# EAGLE library part ATMEGA32U4 (library we-chip)
Microchip ATmega16U4/32U4 AVR Microcontroller
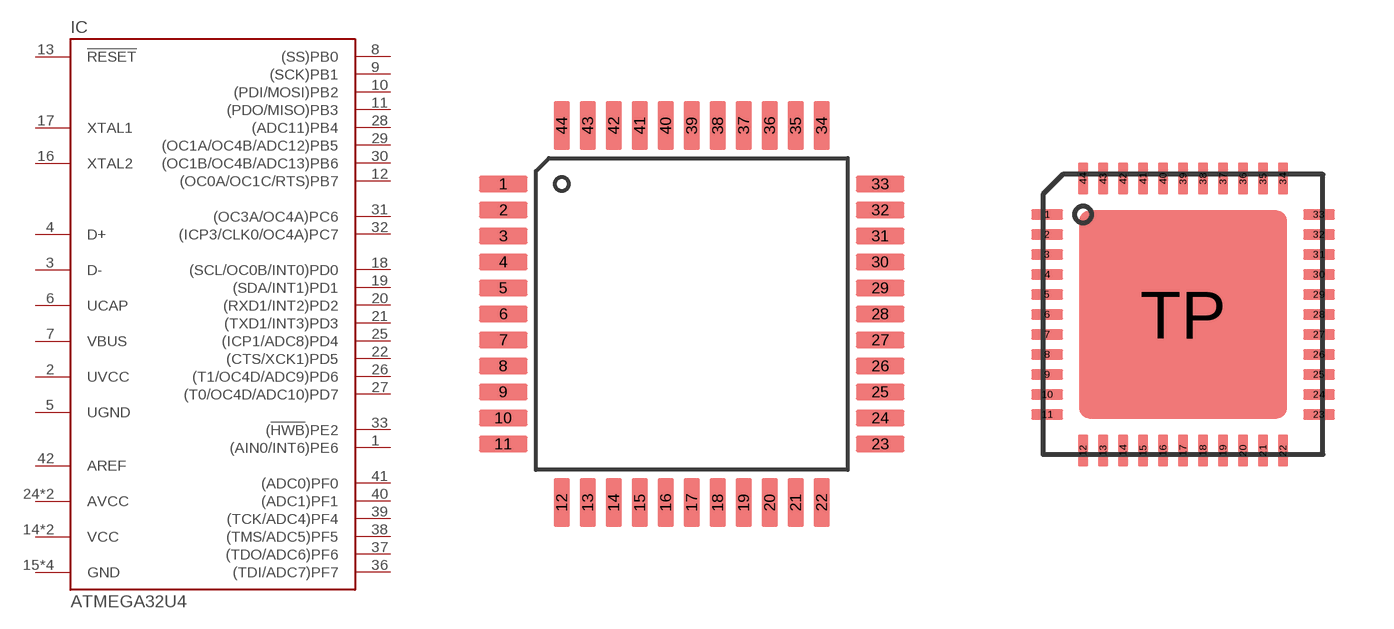
[diagram p3: symbol with the pads of TQFP44; footprints TQFP44, QFN44-PAD]

Designator prefix IC

## ATMEGA32U4-AU  [TQFP44]
1  (AIN0/INT6)PE6
2  UVCC  pwr
3  D-
4  D+
5  UGND  pwr
6  UCAP  pwr
7  VBUS  pwr
8  (SS)PB0
9  (SCK)PB1
10  (PDI/MOSI)PB2
11  (PDO/MISO)PB3
12  (OC0A/OC1C/RTS)PB7
13  !RESET
14  VCC  pwr
15  GND  pwr
16  XTAL2
17  XTAL1
18  (SCL/OC0B/INT0)PD0
19  (SDA/INT1)PD1
20  (RXD1/INT2)PD2
21  (TXD1/INT3)PD3
22  (CTS/XCK1)PD5
23  GND  pwr
24  AVCC  pwr
25  (ICP1/ADC8)PD4
26  (T1/OC4D/ADC9)PD6
27  (T0/OC4D/ADC10)PD7
28  (ADC11)PB4
29  (OC1A/OC4B/ADC12)PB5
30  (OC1B/OC4B/ADC13)PB6
31  (OC3A/OC4A)PC6
32  (ICP3/CLK0/OC4A)PC7
33  (!HWB!)PE2
34  VCC  pwr
35  GND  pwr
36  (TDI/ADC7)PF7
37  (TDO/ADC6)PF6
38  (TMS/ADC5)PF5
39  (TCK/ADC4)PF4
40  (ADC1)PF1
41  (ADC0)PF0
42  AREF  pas
43  GND  pwr
44  AVCC  pwr

## ATMEGA32U4-MU  [QFN44-PAD]
1  (AIN0/INT6)PE6
2  UVCC  pwr
3  D-
4  D+
5  UGND  pwr
6  UCAP  pwr
7  VBUS  pwr
8  (SS)PB0
9  (SCK)PB1
10  (PDI/MOSI)PB2
11  (PDO/MISO)PB3
12  (OC0A/OC1C/RTS)PB7
13  !RESET
14  VCC  pwr
15  GND  pwr
16  XTAL2
17  XTAL1
18  (SCL/OC0B/INT0)PD0
19  (SDA/INT1)PD1
20  (RXD1/INT2)PD2
21  (TXD1/INT3)PD3
22  (CTS/XCK1)PD5
23  GND  pwr
24  AVCC  pwr
25  (ICP1/ADC8)PD4
26  (T1/OC4D/ADC9)PD6
27  (T0/OC4D/ADC10)PD7
28  (ADC11)PB4
29  (OC1A/OC4B/ADC12)PB5
30  (OC1B/OC4B/ADC13)PB6
31  (OC3A/OC4A)PC6
32  (ICP3/CLK0/OC4A)PC7
33  (!HWB!)PE2
34  VCC  pwr
35  GND  pwr
36  (TDI/ADC7)PF7
37  (TDO/ADC6)PF6
38  (TMS/ADC5)PF5
39  (TCK/ADC4)PF4
40  (ADC1)PF1
41  (ADC0)PF0
42  AREF  pas
43  GND  pwr
44  AVCC  pwr
TP  GND  pwr

## Footprint TQFP44 (pad centres in mm)
smd 1.5 x 0.5: 1 -5.8,4; 2 -5.8,3.2; 3 -5.8,2.4; 4 -5.8,1.6; 5 -5.8,0.8; 6 -5.8,0; 7 -5.8,-0.8; 8 -5.8,-1.6; 9 -5.8,-2.4; 10 -5.8,-3.2; 11 -5.8,-4; 23 5.8,-4; 24 5.8,-3.2; 25 5.8,-2.4; 26 5.8,-1.6; 27 5.8,-0.8; 28 5.8,0; 29 5.8,0.8; 30 5.8,1.6; 31 5.8,2.4; 32 5.8,3.2; 33 5.8,4
smd 0.5 x 1.5: 12 -4,-5.8; 13 -3.2,-5.8; 14 -2.4,-5.8; 15 -1.6,-5.8; 16 -0.8,-5.8; 17 0,-5.8; 18 0.8,-5.8; 19 1.6,-5.8; 20 2.4,-5.8; 21 3.2,-5.8; 22 4,-5.8; 34 4,5.8; 35 3.2,5.8; 36 2.4,5.8; 37 1.6,5.8; 38 0.8,5.8; 39 0,5.8; 40 -0.8,5.8; 41 -1.6,5.8; 42 -2.4,5.8; 43 -3.2,5.8; 44 -4,5.8

## Footprint QFN44-PAD (pad centres in mm)
smd 0.8 x 0.26: 1 -3.4,2.5; 2 -3.4,2; 3 -3.4,1.5; 4 -3.4,1; 5 -3.4,0.5; 6 -3.4,0; 7 -3.4,-0.5; 8 -3.4,-1; 9 -3.4,-1.5; 10 -3.4,-2; 11 -3.4,-2.5; 23 3.4,-2.5; 24 3.4,-2; 25 3.4,-1.5; 26 3.4,-1; 27 3.4,-0.5; 28 3.4,0; 29 3.4,0.5; 30 3.4,1; 31 3.4,1.5; 32 3.4,2; 33 3.4,2.5
smd 0.26 x 0.8: 12 -2.5,-3.4; 13 -2,-3.4; 14 -1.5,-3.4; 15 -1,-3.4; 16 -0.5,-3.4; 17 0,-3.4; 18 0.5,-3.4; 19 1,-3.4; 20 1.5,-3.4; 21 2,-3.4; 22 2.5,-3.4; 34 2.5,3.4; 35 2,3.4; 36 1.5,3.4; 37 1,3.4; 38 0.5,3.4; 39 0,3.4; 40 -0.5,3.4; 41 -1,3.4; 42 -1.5,3.4; 43 -2,3.4; 44 -2.5,3.4
smd 5.2 x 5.2: TP 0,0